# Altium schematic symbol library 705550002.SchLib: 2 symbols
Pins are listed as number, name and electrical type; pins without a type are passive.

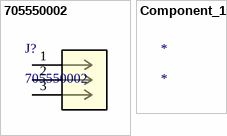
[diagram p0: symbols 705550002 to Component_1]

## 705550002
designator J?
2.54mm Pitch SL Header, Single Row, Right Angle, 3.05mm Pocket, Shrouded, with Press-fit Plastic Peg, 3 Circuits, Tin (Sn) Plating; Manufacturer_Name: Molex Connector Corporation; Copyright: Copyright (C) 2025 Ultra Librarian. All rights reserved.; Manufacturer_Part_Number: 705550002; Datasheet: https://www.molex.com/en-us/products/part-detail-pdf/705550002?display=pdf; RefDes: RefDes; Type: Type
footprint CONN_705550000-SD_03_MOL
pins: 1, 2, 3

## Component_1
designator *